# Altium schematic symbol library 稳压管.SchLib: 5 symbols
Pins are listed as number, name and electrical type; pins without a type are passive.

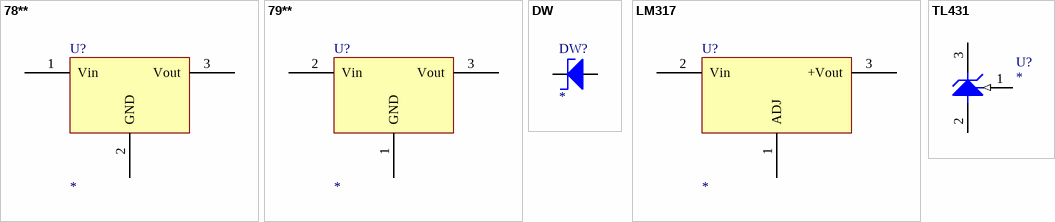
[diagram p0: symbols 78** to TL431]

## 78**
designator U?
footprint TO257V
footprint TO257H
footprint TO92B
footprint TO92A
pins: 1 Vin, 2 GND, 3 Vout

## 79**
designator U?
footprint TO257V
footprint TO257H
footprint TO92B
footprint TO92A
pins: 1 GND, 2 Vin, 3 Vout

## DW
designator DW?
footprint DIDEO0.1
pins: 1 A, 2 K

## LM317
designator U?
footprint TO257V
footprint TO257H
pins: 1 ADJ, 2 Vin, 3 +Vout

## TL431
designator U?
Programmable Voltage Reference
footprint TO92B
footprint TO92A
pins: 1 REF (in), 2 A, 3 K